# Altium schematic symbol library Bare 1.27mm headers.SchLib: 11 symbols
Pins are listed as number, name and electrical type; pins without a type are passive.

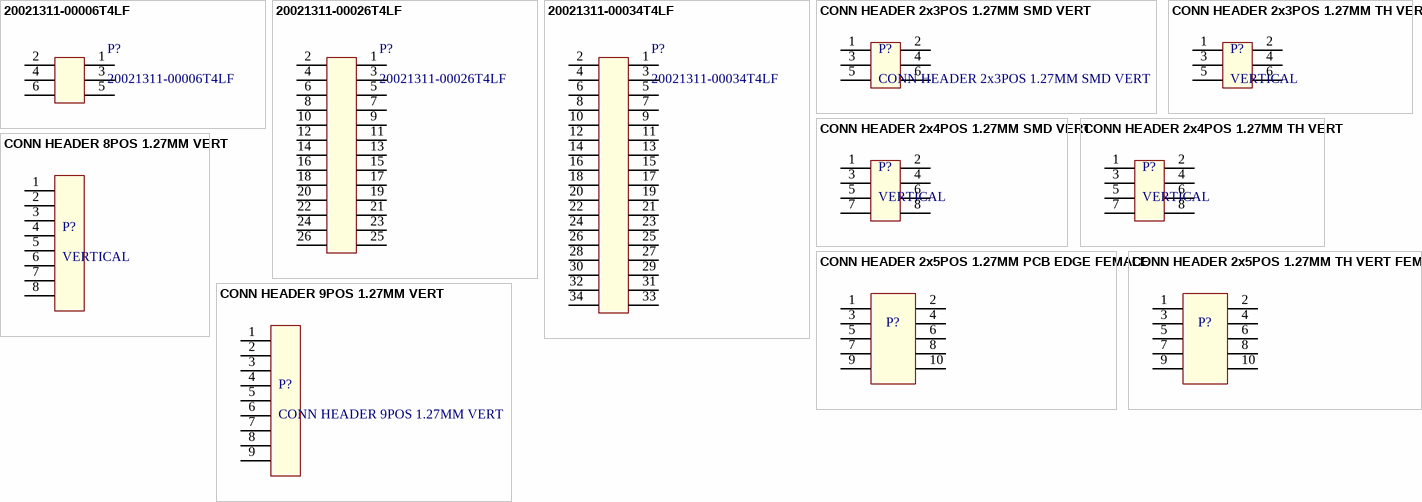
[diagram p0: symbols 20021311-00006T4LF to CONN HEADER 9POS 1.27MM VERT]

## 20021311-00006T4LF
designator P?
1.27mm (0.05in.) pitch, Female Receptacle Top entry, 6 contacts Through Hole
footprint 20021311-00006T4LF (1.27mm (0.05in.) pitch, Female Receptacle Top entry, 6 contacts Through Hole)
pins: 1, 2, 3, 4, 5, 6

## 20021311-00026T4LF
designator P?
1.27mm (0.05in.) pitch, Female Receptacle Top entry, 26 contacts Through Hole
footprint 20021311-00026T4LF (1.27mm (0.05in.) pitch, Female Receptacle Top entry, 26 contacts Through Hole)
pins: 1, 2, 3, 4, 5, 6, 7, 8, 9, 10, 11, 12, 13, 14, 15, 16, 17, 18, 19, 20, 21, 22, 23, 24, 25, 26

## 20021311-00034T4LF
designator P?
1.27mm (0.05in.) pitch, Female Receptacle Top entry, 34 contacts Through Hole
footprint 20021311-00034T4LF (1.27mm (0.05in.) pitch, Female Receptacle Top entry, 34 contacts Through Hole)
pins: 1, 2, 3, 4, 5, 6, 7, 8, 9, 10, 11, 12, 13, 14, 15, 16, 17, 18, 19, 20, 21, 22, 23, 24, 25, 26, 27, 28, 29, 30, 31, 32, 33, 34

## CONN HEADER 2x3POS 1.27MM SMD VERT
designator P?
footprint CONN HEADER 2x3POS 1.27MM SMD VERT
pins: 1, 2, 3, 4, 5, 6

## CONN HEADER 2x3POS 1.27MM TH VERT
designator P?, comment VERTICAL
CONN HEADER 2x3POS 1.27MM TH VERT
footprint CONN HEADER 2x3POS 1.27MM VERT
pins: 1, 2, 3, 4, 5, 6

## CONN HEADER 2x4POS 1.27MM SMD VERT
designator P?, comment VERTICAL
CONN HEADER 2x4POS 1.27MM SMD VERT
footprint CONN HEADER 2x4POS 1.27MM SMD VERT
pins: 1, 2, 3, 4, 5, 6, 7, 8

## CONN HEADER 2x4POS 1.27MM TH VERT
designator P?, comment VERTICAL
CONN HEADER 2x4POS 1.27MM TH VERT
footprint CONN HEADER 2x4POS 1.27MM TH VERT MALE
pins: 1, 2, 3, 4, 5, 6, 7, 8

## CONN HEADER 2x5POS 1.27MM PCB EDGE FEMALE
designator P?  (value not drawn)
footprint CONN HEADER 2x5POS 1.27MM TH PCB EDGE FEMALE
pins: 1, 2, 3, 4, 5, 6, 7, 8, 9, 10

## CONN HEADER 2x5POS 1.27MM TH VERT FEMALE
designator P?  (value not drawn)
footprint CONN HEADER 2x5POS 1.27MM TH VERT FEMALE
pins: 1, 2, 3, 4, 5, 6, 7, 8, 9, 10

## CONN HEADER 8POS 1.27MM VERT
designator P?, comment VERTICAL
CONN HEADER 8POS 1.27MM VERT
footprint CONN HEADER 8POS 1.27MM VERT
pins: 1, 2, 3, 4, 5, 6, 7, 8

## CONN HEADER 9POS 1.27MM VERT
designator P?
footprint CONN HEADER 9POS 1.27MM VERT
pins: 1, 2, 3, 4, 5, 6, 7, 8, 9